# Altium schematic symbol library STMicroelectronics.SchLib: 5 symbols
Pins are listed as number, name and electrical type; pins without a type are passive.

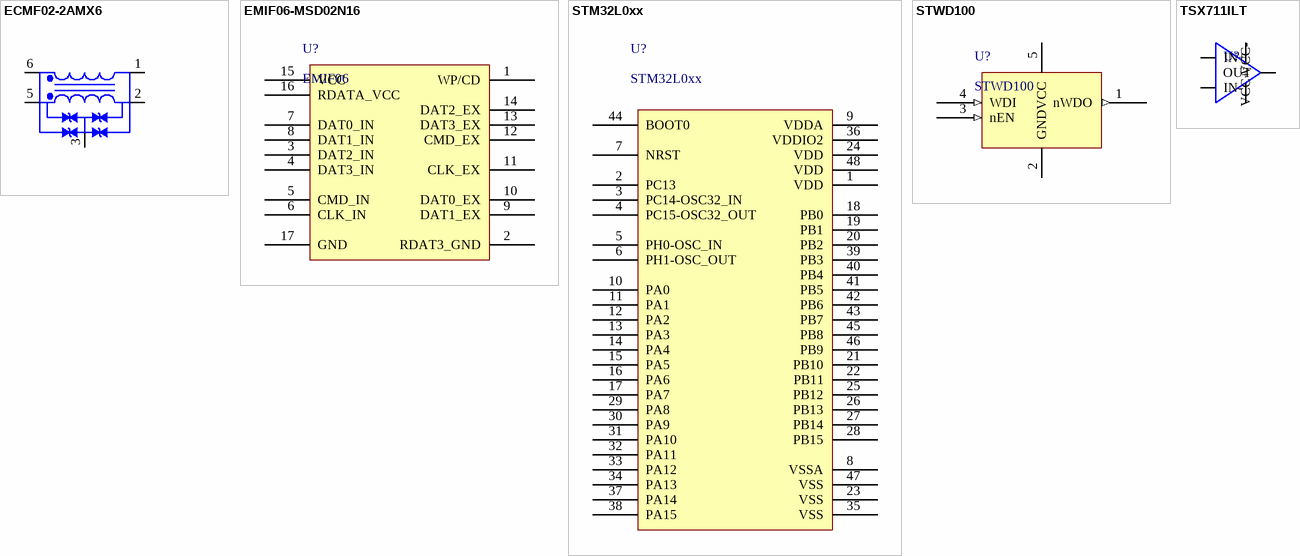
[diagram p0: symbols ECMF02-2AMX6 to TSX711ILT]

## ECMF02-2AMX6
designator L?, comment ECMF02
pins: 1 DD+, 2 DD-, 3 GND, 5 UD-, 6 UD+

## EMIF06-MSD02N16
designator U?, comment EMIF06
pins: 1 WP/CD, 2 RDAT3_GND, 3 DAT2_IN, 4 DAT3_IN, 5 CMD_IN, 6 CLK_IN, 7 DAT0_IN, 8 DAT1_IN, 9 DAT1_EX, 10 DAT0_EX, 11 CLK_EX, 12 CMD_EX, 13 DAT3_EX, 14 DAT2_EX, 15 VCC, 16 RDATA_VCC, 17 GND

## STM32L0xx
designator U?
pins: 1 VDD, 2 PC13, 3 PC14-OSC32_IN, 4 PC15-OSC32_OUT, 5 PH0-OSC_IN, 6 PH1-OSC_OUT, 7 NRST, 8 VSSA, 9 VDDA, 10 PA0, 11 PA1, 12 PA2, 13 PA3, 14 PA4, 15 PA5, 16 PA6, 17 PA7, 18 PB0, 19 PB1, 20 PB2, 21 PB10, 22 PB11, 23 VSS, 24 VDD, 25 PB12, 26 PB13, 27 PB14, 28 PB15, 29 PA8, 30 PA9, 31 PA10, 32 PA11, 33 PA12, 34 PA13, 35 VSS, 36 VDDIO2, 37 PA14, 38 PA15, 39 PB3, 40 PB4, 41 PB5, 42 PB6, 43 PB7, 44 BOOT0, 45 PB8, 46 PB9, 47 VSS, 48 VDD

## STWD100
designator U?
pins: 1 nWDO (out), 2 GND, 3 nEN (in), 4 WDI (in), 5 VCC

## TSX711ILT
designator U?, comment Op-amp  (value not drawn)
IC OP AMP RRIO 16V SOT23-5; Manufacturer: STMicroelectronics; Manufacturer Part Number: TSX711ILT; Number of Circuits: 1; Slew Rate: 1.4V/µs; Gain Bandwidth Product: 2.7MHz; Input Bias Current: 1pA; Input Offset Voltage (Vos): 200uV; Operating Supply Current: 660uA; Output Current per Channel: 71mA; Voltage Gain: 146dB; Common Mode Rejection Ratio: 94dB; Min Supply Voltage: 2.7V; Power Supply Rejection Ratio (PSRR): 100dB; Supplier 1: Digi-Key; Supplier Part Number 1: 497-14868-1-ND; Stock 1: 8181; Pricing 1: 1 = 1.26000, 10 = 1.13000, 25 = 1.07280, 100 = 0.82380, 250 = 0.72800, 500 = 0.68968, 1000 = 0.53642 (USD); RoHS: Yes; Mount: Surface Mount; Case/Package: SOT-23; Number of Pins: 5; Min Operating Temperature: -40°C; Max Operating Temperature: 125°C; Packaging: Tape and Reel; Bandwidth: 2.7MHz; Number of Amplifiers: 1; Max Supply Voltage: 16V; Length: 3mm; Height: 1.3mm; Width: 1.75mm; REACH SVHC: No SVHC; Lead Free: Lead Free; ComponentLink1URL: http://www.farnell.com/datasheets/2036656.pdf?src-supplier=Farnell; ComponentLink1Description: http://www.farnell.com/datasheets/2036656.pdf?src-supplier=Farnell; ComponentLink2URL: http://www.mouser.com/ds/2/389/DM00108580-524592.pdf?src-supplier=Mouser; ComponentLink2Description: http://www.mouser.com/ds/2/389/DM00108580-524592.pdf?src-supplier=Mouser; ComponentLink3URL: http://www.st.com/st-web-ui/static/active/en/resource/technical/document/datasheet/DM00108580.pdf?src-supplier=Avnet; ComponentLink3Description: http://www.st.com/st-web-ui/static/active/en/resource/technical/document/datasheet/DM00108580.pdf?src-supplier=Avnet; ComponentLink4URL: http://www.st.com/st-web-ui/static/active/en/resource/technical/document/datasheet/DM00108580.pdf?src-supplier=Avnet+Asia; ComponentLink4Description: http://www.st.com/st-web-ui/static/active/en/resource/technical/document/datasheet/DM00108580.pdf?src-supplier=Avnet+Asia; ComponentLink5URL: http://www.st.com/content/ccc/resource/technical/document/datasheet/eb/ec/a6/63/9a/ee/45/ad/DM00108580.pdf/files/DM00108580.pdf/jcr:content/translations/en.DM00108580.pdf?src-supplier=Digi-Key; ComponentLink5Description: http://www.st.com/content/ccc/resource/technical/document/datasheet/eb/ec/a6/63/9a/ee/45/ad/DM00108580.pdf/files/DM00108580.pdf/jcr:content/translations/en.DM00108580.pdf?src-supplier=Digi-Key; ComponentLink6URL: http://www.farnell.com/datasheets/1905401.pdf?src-supplier=Element14; ComponentLink6Description: http://www.farnell.com/datasheets/1905401.pdf?src-supplier=Element14
footprint SOT95P280X145-5N (SOT23, 5-Leads, Body 2.90x2.80mm, Pitch 0.95mm, IPC Medium Density)
pins: 1 OUT, 2 VCC-, 3 IN+, 4 IN-, 5 VCC+